# Altium footprint library C&K Slide Switch 3-pin.PcbLib: 1 footprints
Each footprint in its own frame and in the unit in brackets; x right, y up, seen from the top. Pads: shape width x height; smd on the part's side, far side on the other; paste and mask are expansions set on the pad; w line width, h text height; cw(c..) or ccw(c..) is an arc to the next point about the centre after c.
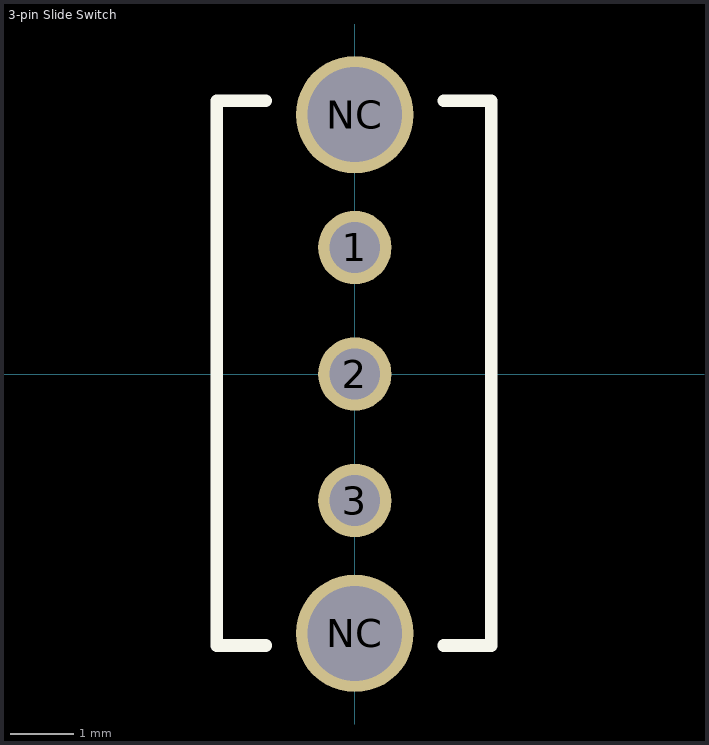
[diagram p0: the footprint, top view; thin cyan lines are the x and y axes]

## 3-pin Slide Switch [mm]
pads (5):
  round 1.16 hole 0.8: 1(0,2) 2(0,0) 3(0,-2)
  round 1.86 hole 1.5: NC(0,-4.1) NC(0,4.1)
Top Overlay:
  lines w0.2: -1.406,-4.293 -2.184,-4.293 -2.184,4.318 -1.406,4.318 ; 1.406,-4.293 2.159,-4.293 2.159,4.318 1.406,4.318
3D body "os102011ms2qn1_093011.stp": height 8.7, standoff -2.8, extent -2.15,-4.3 2.15,4.3